# Altium footprint library panasonic-potentiometer.PcbLib: 2 footprints
Each footprint in its own frame and in the unit in brackets; x right, y up, seen from the top. Pads: shape width x height; smd on the part's side, far side on the other; paste and mask are expansions set on the pad; w line width, h text height; cw(c..) or ccw(c..) is an arc to the next point about the centre after c.
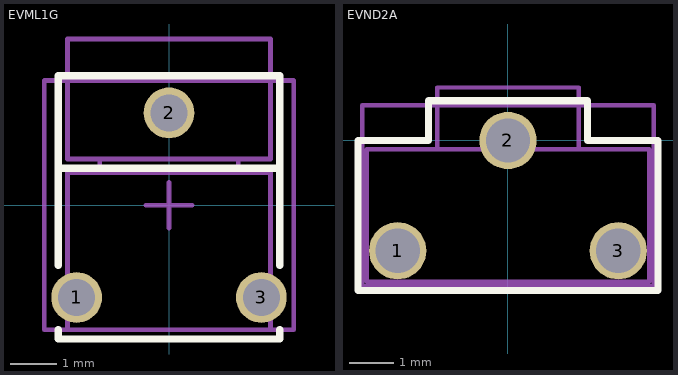
[diagram p0: the footprints below, top view; thin cyan lines are the x and y axes]

## EVML1G [mm] "Ceramic Substrate Trimmer Potentiometer - Side-adjust"
height 6.7
pads (3):
  round 1.1 hole 0.8: 1(-2,-2) 2(0,2) 3(2,-2)
Top Overlay:
  lines w0.16: -2.4,-2.7 -2.4,-2.9 2.4,-2.9 2.4,-2.7 ; -2.4,-1.3 -2.4,2.8 2.4,2.8 2.4,-1.3 ; -2.4,0.8 2.4,0.8
Mechanical 13:
  lines w0.1: -1.5,0.7 -1.5,1 ; -0.5,0 0.5,0 ; 0,-0.5 0,0.5 ; 1.5,0.7 1.5,1 ; -2.2,-2.7 2.2,-2.7 2.2,0.7 -2.2,0.7 -2.2,-2.7 ; -2.2,1 2.2,1 2.2,3.6 -2.2,3.6 -2.2,1
Mechanical 15:
  lines w0.1: -2.7,-2.7 -2.7,2.7 2.7,2.7 2.7,-2.7 -2.7,-2.7
  text ".Designator" at -1.05,-0.05 h0.5
3D body: height 4.2, standoff 0, extent -2.1,-2.7 -1.9,-0.8
3D body: height 5.7, standoff 1.3, extent -2.2,1 2.183,3.6
3D body: height 5.5, standoff 1.5, extent -1.992,-0.8 1.992,0.8
3D body: height 4.2, standoff 0, extent 1.9,-2.7 2.1,-0.8

## EVND2A [mm] "Carbon Composition Trimmer Potentiometer - Side-adjust"
height 8
pads (3):
  round 1.3 hole 1: 1(-2.5,-2.5) 2(0,0) 3(2.5,-2.5)
Top Overlay:
  lines w0.16: -3.4,-3.4 3.4,-3.4 3.4,0 1.8,0 1.8,0.9 -1.8,0.9 -1.8,0 -3.4,0 -3.4,-3.4
Mechanical 13:
  lines w0.1: -1.6,-0.2 -1.6,1.2 1.6,1.2 1.6,-0.2 ; -3.2,-3.2 3.2,-3.2 3.2,-0.2 -3.2,-0.2 -3.2,-3.2
Mechanical 15:
  lines w0.1: -0.5,0 0.5,0 ; 0,-0.5 0,0.5 ; -3.3,-3.3 -3.3,0.8 3.3,0.8 3.3,-3.3 -3.3,-3.3
3D body: height 9.3, standoff -2.5, extent -3.2,-2.625 3.2,2.025